# Altium schematic symbol library ICs_Logic.SchLib: 36 symbols
Pins are listed as number, name and electrical type; pins without a type are passive.

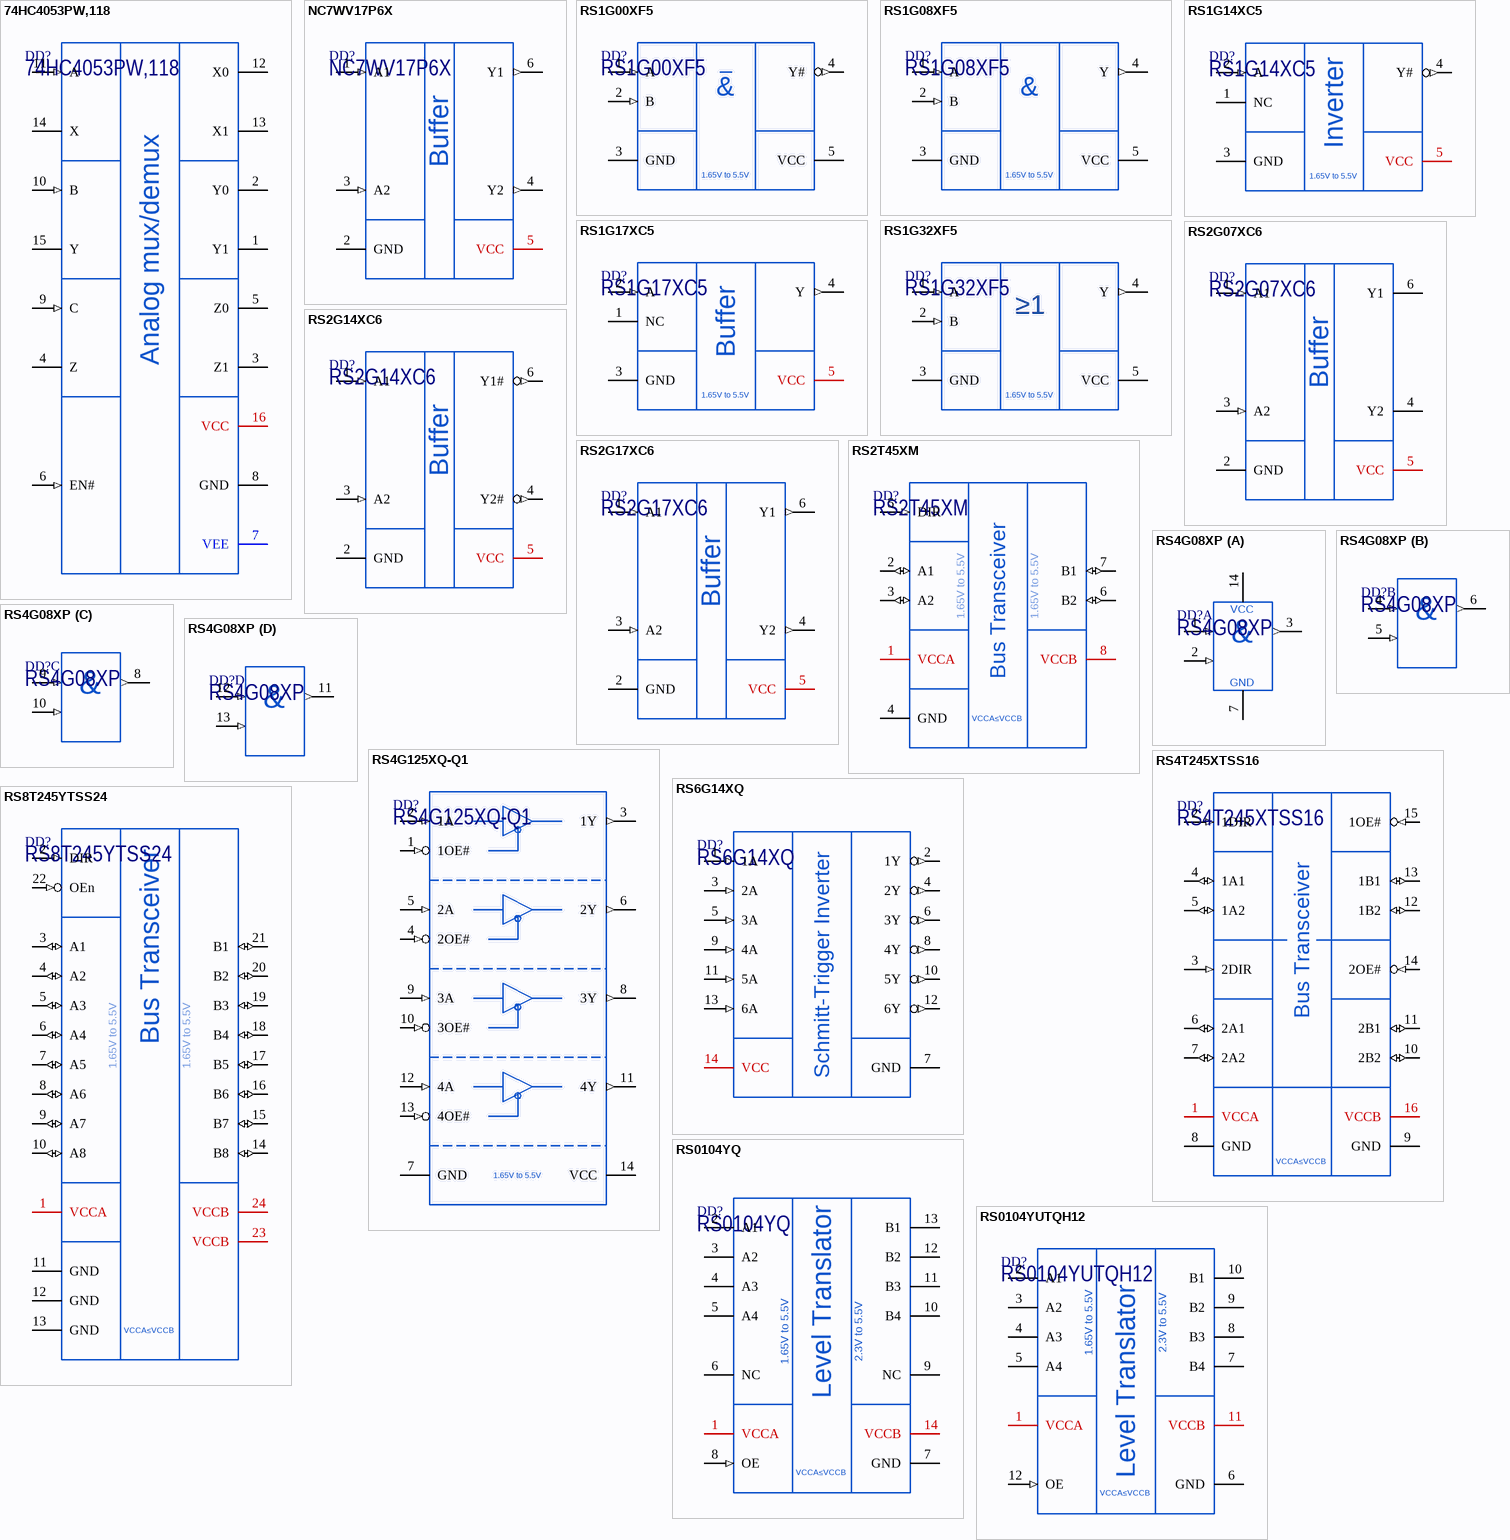
[diagram p0: symbols 74HC4053PW,118 to RS0104YUTQH12]

## 74HC4053PW,118
designator DD?
Triple 2-channel analog multiplexer/demultiplexer; Manufacturer: NXP; Marking: HC4053; ItemType: IC; ItemSubType: Logic; Package: TSSOP-16; PartNumber: 74HC4053PW,118; Mounting: SMD
footprint TSSOP16_JEDEC_MO153AB (TSSOP, 16-Leads, Body 5.0x4.40mm, Pitch 0.65mm)
pins: 1 Y1, 2 Y0, 3 Z1, 4 Z, 5 Z0, 6 EN# (in), 7 VEE, 8 GND, 9 C (in), 10 B (in), 11 A (in), 12 X0, 13 X1, 14 X, 15 Y, 16 VCC (power)
text: Analog mux/demux

## NC7WV17P6X
designator DD?
Dual Schmitt-Trigger Buffer; Manufacturer: ON Semiconductor; ItemType: IC; ItemSubType: Logic; Package: SC-88/SOT363; PartNumber: NC7WV17P6X; Mounting: SMD
footprint SOT363 (SOT363, 6-Leads, Body 1.25x2.00mm, Pitch 0.65mm)
pins: 1 A1 (in), 2 GND, 3 A2 (in), 4 Y2 (out), 5 VCC (power), 6 Y1 (out)
text: Buffer

## RS1G00XF5
designator DD?
Single 2–Input Positive-NAND Gate; Manufacturer: Runic; AltManufacturer1: Texas Instruments; Alternative1: SN74AHC1G00DBVR; Marking: 1G00; ItemType: IC; ItemSubType: Logic; PartNumber: RS1G00XF5; Package: SOT23-5; Mounting: SMD
footprint SOT235_JEDEC_MO178AA (SOT23, 5-Leads, Body 1.60x2.90mm, Pitch 0.95mm)
pins: 1 A (in), 2 B (in), 3 GND, 4 Y# (out), 5 VCC (power)
text: &; 1.65V to 5.5V

## RS1G08XF5
designator DD?
Single 2–Input Positive-AND Gate; Manufacturer: Runic; AltManufacturer1: Texas Instruments; Alternative1: SN74AHC1G08DBVR; Marking: 1G08; ItemType: IC; ItemSubType: Logic; PartNumber: RS1G08XF5; Package: SOT23-5; Mounting: SMD
footprint SOT235_JEDEC_MO178AA (SOT23, 5-Leads, Body 1.60x2.90mm, Pitch 0.95mm)
pins: 1 A (in), 2 B (in), 3 GND, 4 Y (out), 5 VCC (power)
text: &; 1.65V to 5.5V

## RS1G14XC5
designator DD?
Single Schmitt-Trigger Inverter; Manufacturer: Runic; AltManufacturer1: Texas Instruments; Alternative1: SN74LVC1G14DCK; Marking: 1G14; ItemType: IC; ItemSubType: Logic; PartNumber: RS1G14XC5; Package: SC70-5; Mounting: SMD
footprint SC705_JEDEC_MO203AA (SC70, 5-Leads, Body 1.25x2.00mm, Pitch 0.65mm)
pins: 1 NC (hiz), 2 A (in), 3 GND, 4 Y# (out), 5 VCC (power)
text: Inverter; 1.65V to 5.5V

## RS1G17XC5
designator DD?
Single Schmitt-Trigger Buffer; Manufacturer: Runic; AltManufacturer1: Texas Instruments; Alternative1: SN74LVC1G17DCK; Marking: 1G17; ItemType: IC; ItemSubType: Logic; PartNumber: RS1G17XC5; Package: SC70-5; Mounting: SMD
footprint SC705_JEDEC_MO203AA (SC70, 5-Leads, Body 1.25x2.00mm, Pitch 0.65mm)
pins: 1 NC (hiz), 2 A (in), 3 GND, 4 Y (out), 5 VCC (power)
text: Buffer; 1.65V to 5.5V

## RS1G32XF5
designator DD?
Single 2–Input Positive-OR Gate; Manufacturer: Runic; AltManufacturer1: ON Semiconductor; Alternative1: NC7SZ32M5X; Marking: 1G32; ItemType: IC; ItemSubType: Logic; PartNumber: RS1G32XF5; Package: SOT23-5; Mounting: SMD
footprint SOT235_JEDEC_MO178AA (SOT23, 5-Leads, Body 1.60x2.90mm, Pitch 0.95mm)
pins: 1 A (in), 2 B (in), 3 GND, 4 Y (out), 5 VCC (power)
text: ≥1; 1.65V to 5.5V

## RS2G07XC6
designator DD?
Dual Buffer and Driver with Open-Drain / Outputs; Manufacturer: Runic; AltManufacturer1: ON Semiconductor; Alternative1: NC7WZ07P6X; Marking: 2G07; ItemType: IC; ItemSubType: Logic; Package: SC70-6; PartNumber: RS2G07XC6; Mounting: SMD
footprint SC706_JEDEC_MO203AB (SC70, 6-Leads, Body 1.25x2.00mm, Pitch 0.65mm)
pins: 1 A1 (in), 2 GND, 3 A2 (in), 4 Y2 (oc), 5 VCC (power), 6 Y1 (oc)
text: Buffer

## RS2G14XC6
designator DD?
Dual Schmitt-Trigger Inverter; Manufacturer: Runic; AltManufacturer1: ON Semiconductor; Alternative1: NC7WZ14P6X; Marking: 2G14; ItemType: IC; ItemSubType: Logic; Package: SC70-6; PartNumber: RS2G14XC6; Mounting: SMD
footprint SC706_JEDEC_MO203AB (SC70, 6-Leads, Body 1.25x2.00mm, Pitch 0.65mm)
pins: 1 A1 (in), 2 GND, 3 A2 (in), 4 Y2# (out), 5 VCC (power), 6 Y1# (out)
text: Buffer

## RS2G17XC6
designator DD?
Dual Schmitt-Trigger Buffer; Manufacturer: Runic; AltManufacturer1: ON Semiconductor; Alternative1: NC7WZ17P6X; Marking: 2G17; ItemType: IC; ItemSubType: Logic; Package: SC70-6; PartNumber: RS2G17XC6; Mounting: SMD
footprint SC706_JEDEC_MO203AB (SC70, 6-Leads, Body 1.25x2.00mm, Pitch 0.65mm)
pins: 1 A1 (in), 2 GND, 3 A2 (in), 4 Y2 (out), 5 VCC (power), 6 Y1 (out)
text: Buffer

## RS2T45XM
designator DD?
2-Bit Dual-Supply Bus Transceiver with Configurable Voltage Translation and 3-State Output; Manufacturer: Runic; Marking: RS2T45; ItemType: IC; ItemSubType: Logic; PartNumber: RS2T45XM; Package: MSOP-8; Mounting: SMD
footprint MSOP8_JEDEC_MO187AA (MSOP, 8-Leads, Body 3.00x3.00mm, Pitch 0.65mm)
pins: 1 VCCA (power), 2 A1 (io), 3 A2 (io), 4 GND, 5 DIR (in), 6 B2 (io), 7 B1 (io), 8 VCCB (power)
text: 1.65V to 5.5V; Bus Transceiver; VCCA≤VCCB

## RS4G08XP
designator DD?
Quad 2-input AND gate; Manufacturer: Runic; AltManufacturer1: NXP; Alternative1: 74HC08D,653; Marking: RS4G08; ItemType: IC; ItemSubType: Logic; Package: SOIC-14(SOP14); PartNumber: RS4G08XP; Mounting: SMD
footprint SOIC14_JEDEC_MS012AB (SOIC, 14-Leads, Body 3.90x8.65mm, Pitch 1.27mm)
part A pins: 1 1A (in), 2 1B (in), 3 1Y (out), 7 GND, 14 VCC (power)
part B pins: 4 2A (in), 5 2B (in), 6 2Y (out)
part C pins: 8 3Y (out), 9 3A (in), 10 3B (in)
part D pins: 11 4Y (out), 12 4A (in), 13 4B (in)
part A text: &
part B text: &
part C text: &
part D text: &

## RS4G125XQ-Q1
designator DD?
Quadruple Bus Buffer Gate With 3-State Outputs; Manufacturer: Runic; AltManufacturer1: ON Semiconductor; Alternative1: 74LCX125MTC; ItemType: IC; ItemSubType: Logic; PartNumber: RS4G125XQ-Q1; Package: TSSOP-14; Mounting: SMD
footprint TSSOP14_JEDEC_MO153AB-1 (TSSOP, 14-Leads, Body 5.0x4.40mm, Pitch 0.65mm)
pins: 1 1OE# (in), 2 1A (in), 3 1Y (out), 4 2OE# (in), 5 2A (in), 6 2Y (out), 7 GND, 8 3Y (out), 9 3A (in), 10 3OE# (in), 11 4Y (out), 12 4A (in), 13 4OE# (in), 14 VCC (power)
text: 1.65V to 5.5V

## RS4T245XTSS16
designator DD?
4-Bit Dual-Supply Bus Transceiver with Configurable Voltage Translation and 3-State Output; Manufacturer: Runic; ItemType: IC; ItemSubType: Logic; PartNumber: RS4T245XTSS16; Package: TSSOP-16; Marking: RS4T245; Mounting: SMD
footprint TSSOP16_JEDEC_MO153AB (TSSOP, 16-Leads, Body 5.0x4.40mm, Pitch 0.65mm)
pins: 1 VCCA (power), 2 1DIR (in), 3 2DIR (in), 4 1A1 (io), 5 1A2 (io), 6 2A1 (io), 7 2A2 (io), 8 GND, 9 GND, 10 2B2 (io), 11 2B1 (io), 12 1B2 (io), 13 1B1 (io), 14 2OE# (in), 15 1OE# (in), 16 VCCB (power)
text: Bus Transceiver; VCCA≤VCCB

## RS6G14XQ
designator DD?
6-channel Schmitt-Trigger Inverter; Manufacturer: Runic; AltManufacturer1: Texas Instruments; Alternative1: SN74HC14PWR; Marking: RS6G14; ItemType: IC; ItemSubType: Logic; PartNumber: RS6G14XQ; Package: TSSOP-14; Mounting: SMD
footprint TSSOP14_JEDEC_MO153AB-1 (TSSOP, 14-Leads, Body 5.0x4.40mm, Pitch 0.65mm)
pins: 1 1A (in), 2 1Y (out), 3 2A (in), 4 2Y (out), 5 3A (in), 6 3Y (out), 7 GND, 8 4Y (out), 9 4A (in), 10 5Y (out), 11 5A (in), 12 6Y (out), 13 6A (in), 14 VCC (power)
text: Schmitt-Trigger Inverter

## RS8T245YTSS24
designator DD?
8-Bit Dual-Supply Bus Transceiver with Configurable Voltage Translation and 3-State Output; Manufacturer: Runic; AltManufacturer1: Texas Instruments; Alternative1: SN74LVC8T245PWR; ItemType: IC; ItemSubType: Logic; PartNumber: RS8T245YTSS24; Package: TSSOP-24; Marking: RS8T245; Mounting: SMD
footprint TSSOP24_JEDEC_MO153AD (TSSOP, 24-Leads, Body 7.8.0x4.40mm, Pitch 0.65mm)
pins: 1 VCCA (power), 2 DIR (in), 3 A1 (io), 4 A2 (io), 5 A3 (io), 6 A4 (io), 7 A5 (io), 8 A6 (io), 9 A7 (io), 10 A8 (io), 11 GND, 12 GND, 13 GND, 14 B8 (io), 15 B7 (io), 16 B6 (io), 17 B5 (io), 18 B4 (io), 19 B3 (io), 20 B2 (io), 21 B1 (io), 22 OEn (in), 23 VCCB (power), 24 VCCB (power)
text: Bus Transceiver; 1.65V to 5.5V; VCCA≤VCCB

## RS0104YQ
designator DD?
4-Bit Bidirectional Voltage-Level Translator for OpenDrain and Push-Pull Applications; Manufacturer: Runic; AltManufacturer1: Texas Instruments; Alternative1: TXS0104EPW; Marking: RS0104; ItemType: IC; ItemSubType: Logic; PartNumber: RS0104YQ; Package: TSSOP-14; Mounting: SMD
footprint TSSOP14_JEDEC_MO153AB-1 (TSSOP, 14-Leads, Body 5.0x4.40mm, Pitch 0.65mm)
pins: 1 VCCA (power), 2 A1 (oc), 3 A2 (oc), 4 A3 (oc), 5 A4 (oc), 6 NC (hiz), 7 GND, 8 OE (in), 9 NC (hiz), 10 B4 (oc), 11 B3 (oc), 12 B2 (oc), 13 B1 (oc), 14 VCCB (power)
text: Level Translator; 1.65V to 5.5V; 2.3V to 5.5V; VCCA≤VCCB

## RS0104YUTQH12
designator DD?
4-Bit Bidirectional Voltage-Level Translator for OpenDrain and Push-Pull Applications; Manufacturer: Runic; Marking: 0104; ItemType: IC; ItemSubType: Logic; PartNumber: RS0104YUTQH12; Package: QFN2x1.7-12L; Mounting: SMD
footprint QFN2x1.7-12L (QFN, 12 leads, 1.7mm x 2mm, 0.4mm pitch)
pins: 1 VCCA (power), 2 A1 (oc), 3 A2 (oc), 4 A3 (oc), 5 A4 (oc), 6 GND, 7 B4 (oc), 8 B3 (oc), 9 B2 (oc), 10 B1 (oc), 11 VCCB (power), 12 OE (in)
text: 1.65V to 5.5V; 2.3V to 5.5V; Level Translator; VCCA≤VCCB

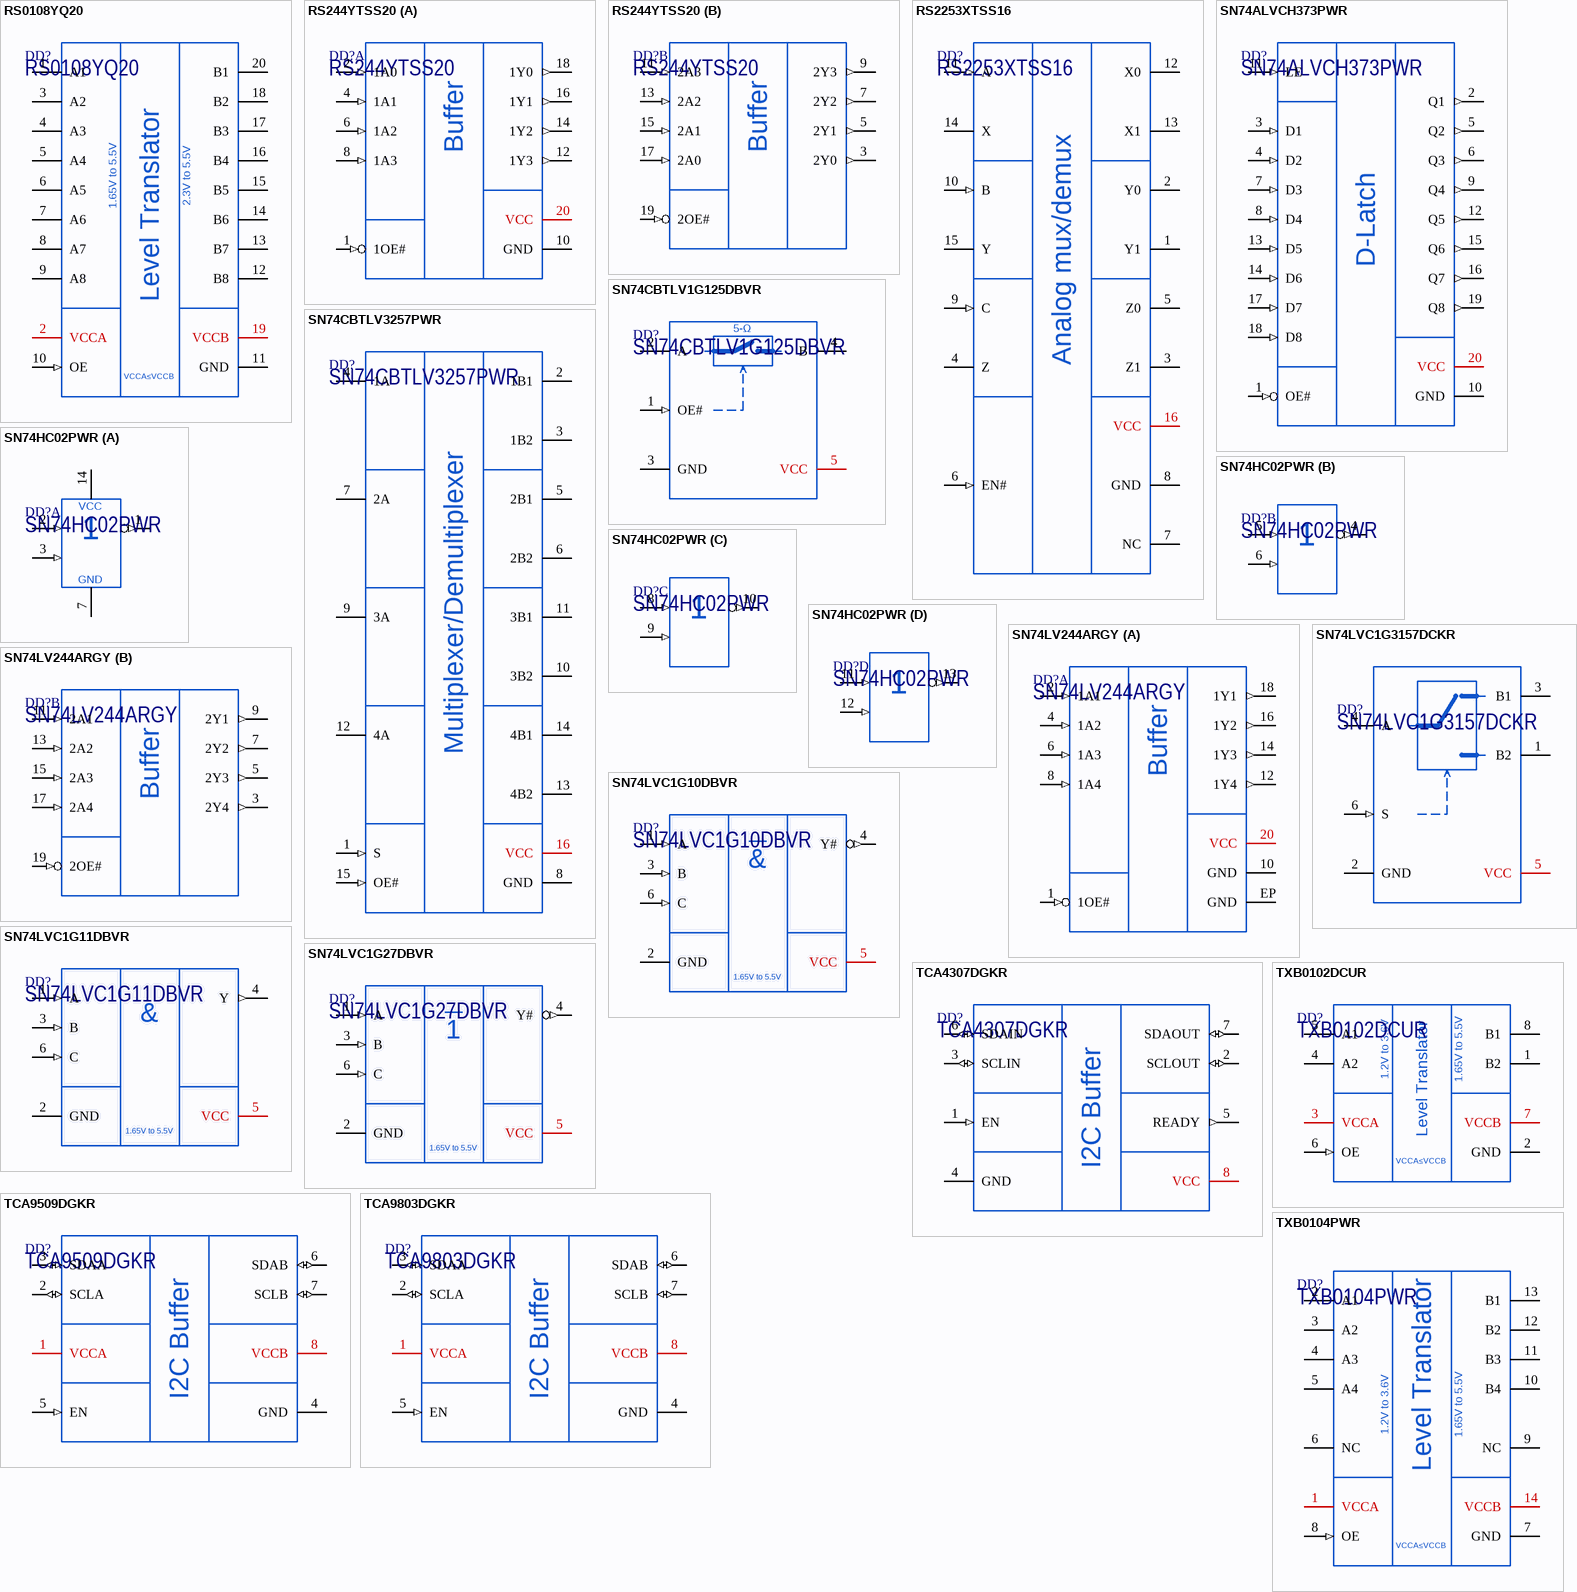
[diagram p1: symbols RS0108YQ20 to TXB0104PWR]

## RS0108YQ20
designator DD?
8-Bit Bidirectional Voltage-Level Translator for OpenDrain and Push-Pull Applications; Manufacturer: Runic; AltManufacturer1: Texas Instruments; Alternative1: TXS0108EPW; Marking: RS0108; ItemType: IC; ItemSubType: Logic; PartNumber: RS0108YQ20; Package: TSSOP-20; Mounting: SMD
footprint TSSOP20_JEDEC_MO153AC (TSSOP, 20-Leads, Body 6.50x4.40mm, Pitch 0.65mm)
pins: 1 A1 (oc), 2 VCCA (power), 3 A2 (oc), 4 A3 (oc), 5 A4 (oc), 6 A5 (oc), 7 A6 (oc), 8 A7 (oc), 9 A8 (oc), 10 OE (in), 11 GND, 12 B8 (oc), 13 B7 (oc), 14 B6 (oc), 15 B5 (oc), 16 B4 (oc), 17 B3 (oc), 18 B2 (oc), 19 VCCB (power), 20 B1 (oc)
text: 1.65V to 5.5V; 2.3V to 5.5V; Level Translator; VCCA≤VCCB

## RS244YTSS20
designator DD?
Octal Buffer/Driver With 3-State Outputs; Manufacturer: Runic; AltManufacturer1: Texas Instruments; Alternative1: SN74LVC244APW; Marking: RS244; ItemType: IC; ItemSubType: Logic; PartNumber: RS244YTSS20; Package: TSSOP-20; Mounting: SMD
footprint TSSOP20_JEDEC_MO153AC (TSSOP, 20-Leads, Body 6.50x4.40mm, Pitch 0.65mm)
part A pins: 1 1OE# (in), 2 1A0 (in), 4 1A1 (in), 6 1A2 (in), 8 1A3 (in), 10 GND, 12 1Y3 (out), 14 1Y2 (out), 16 1Y1 (out), 18 1Y0 (out), 20 VCC (power)
part B pins: 3 2Y0 (out), 5 2Y1 (out), 7 2Y2 (out), 9 2Y3 (out), 11 2A3 (in), 13 2A2 (in), 15 2A1 (in), 17 2A0 (in), 19 2OE# (in)
part A text: Buffer
part B text: Buffer

## RS2253XTSS16
designator DD?
CMOS Triple 2-Channel Analog Multiplexer/Demultiplexer; Manufacturer: Jiangsu Runic Technology; AltManufacturer1: NXP; Alternative1: 74HC4053PW,118; Marking: RS2253; ItemType: IC; ItemSubType: Logic; Package: TSSOP-16; PartNumber: RS2253XTSS16; Mounting: SMD
footprint TSSOP16_JEDEC_MO153AB (TSSOP, 16-Leads, Body 5.0x4.40mm, Pitch 0.65mm)
pins: 1 Y1, 2 Y0, 3 Z1, 4 Z, 5 Z0, 6 EN# (in), 7 NC (hiz), 8 GND, 9 C (in), 10 B (in), 11 A (in), 12 X0, 13 X1, 14 X, 15 Y, 16 VCC (power)
text: Analog mux/demux

## SN74ALVCH373PWR
designator DD?
Octal Transparent D-Type Latch With 3-State Outputs; Manufacturer: Texas Instruments; Marking: VB373; ItemType: IC; ItemSubType: Logic; PartNumber: SN74ALVCH373PWR; Package: TSSOP-20; Mounting: SMD
footprint TSSOP20_JEDEC_MO153AC (TSSOP, 20-Leads, Body 6.50x4.40mm, Pitch 0.65mm)
pins: 1 OE# (in), 2 Q1 (out), 3 D1 (in), 4 D2 (in), 5 Q2 (out), 6 Q3 (out), 7 D3 (in), 8 D4 (in), 9 Q4 (out), 10 GND, 11 LE (in), 12 Q5 (out), 13 D5 (in), 14 D6 (in), 15 Q6 (out), 16 Q7 (out), 17 D7 (in), 18 D8 (in), 19 Q8 (out), 20 VCC (power)
text: D-Latch

## SN74CBTLV1G125DBVR
designator DD?
Low-Voltage single FET bus switch; Manufacturer: Texas Instruments; Marking: V25x; ItemType: IC; ItemSubType: Mux; Package: SOT23-5; PartNumber: SN74CBTLV1G125DBVR; Mounting: SMD
footprint SOT235_JEDEC_MO178AA (SOT23, 5-Leads, Body 1.60x2.90mm, Pitch 0.95mm)
pins: 1 OE# (in), 2 A, 3 GND, 4 B, 5 VCC (power)
text: 5-Ω

## SN74CBTLV3257PWR
designator DD?
Low-Voltage 4-Bit 1-of-2 FET Multiplexer/Demultiplexer; Manufacturer: Texas Instruments; AltManufacturer1: NXP; Alternative1: 74CBTLV3257PW.118; Marking: CL257; ItemType: IC; ItemSubType: Mux; Package: TSSOP-16; PartNumber: SN74CBTLV3257PWR; Mounting: SMD
footprint TSSOP16_JEDEC_MO153AB (TSSOP, 16-Leads, Body 5.0x4.40mm, Pitch 0.65mm)
pins: 1 S (in), 2 1B1, 3 1B2, 4 1A, 5 2B1, 6 2B2, 7 2A, 8 GND, 9 3A, 10 3B2, 11 3B1, 12 4A, 13 4B2, 14 4B1, 15 OE# (in), 16 VCC (power)
text: Multiplexer/Demultiplexer

## SN74HC02PWR
designator DD?
Quadruple 2-InputPositive-NORGates; Manufacturer: Texas Instruments; AltManufacturer1: Runic; Alternative1: RS4G02XQ; Marking: HC02; ItemType: IC; ItemSubType: Logic; PartNumber: SN74HC02PWR; Package: TSSOP-14; Mounting: SMD
footprint TSSOP14_JEDEC_MO153AB-1 (TSSOP, 14-Leads, Body 5.0x4.40mm, Pitch 0.65mm)
part A pins: 1 1Y (out), 2 1A (in), 3 1B (in), 7 GND, 14 VCC (power)
part B pins: 4 2Y (out), 5 2A (in), 6 2B (in)
part C pins: 8 3A (in), 9 3B (in), 10 3Y (out)
part D pins: 11 4A (in), 12 4B (in), 13 4Y (out)

## SN74LV244ARGY
designator DD?
Octal Buffer/Driver With 3-State Outputs; Manufacturer: Texas Instruments; Marking: LV244A; ItemType: IC; ItemSubType: Logic; PartNumber: SN74LV244ARGY; Package: VQFN-20; Mounting: SMD
footprint VQFN20_RGY0020A (Power VQFN 3.5mm x 4.5mm, TI case RGY0020A)
part A pins: 1 1OE# (in), 2 1A1 (in), 4 1A2 (in), 6 1A3 (in), 8 1A4 (in), 10 GND, 12 1Y4 (out), 14 1Y3 (out), 16 1Y2 (out), 18 1Y1 (out), 20 VCC (power), EP GND
part B pins: 3 2Y4 (out), 5 2Y3 (out), 7 2Y2 (out), 9 2Y1 (out), 11 2A1 (in), 13 2A2 (in), 15 2A3 (in), 17 2A4 (in), 19 2OE# (in)
part A text: Buffer
part B text: Buffer

## SN74LVC1G10DBVR
designator DD?
Single 3-Input Positive-NAND Gate; Manufacturer: Texas Instruments; Marking: C10x; ItemType: IC; ItemSubType: Logic; PartNumber: SN74LVC1G10DBVR; Package: SOT23-6; Mounting: SMD
footprint SOT236_JEDEC_MO178AB (SOT23, 6-Leads, Body 1.60x2.90mm, Pitch 0.95mm)
pins: 1 A (in), 2 GND, 3 B (in), 4 Y# (out), 5 VCC (power), 6 C (in)
text: &; 1.65V to 5.5V

## SN74LVC1G11DBVR
designator DD?
Single 3-Input Positive-AND Gate; Manufacturer: Texas Instruments; Marking: C11x; ItemType: IC; ItemSubType: Logic; PartNumber: SN74LVC1G11DBVR; Package: SOT23-6; Mounting: SMD
footprint SOT236_JEDEC_MO178AB (SOT23, 6-Leads, Body 1.60x2.90mm, Pitch 0.95mm)
pins: 1 A (in), 2 GND, 3 B (in), 4 Y (out), 5 VCC (power), 6 C (in)
text: &; 1.65V to 5.5V

## SN74LVC1G27DBVR
designator DD?
Single 3-Input Positive-NOR Gate; Manufacturer: Texas Instruments; Marking: C27x; ItemType: IC; ItemSubType: Logic; PartNumber: SN74LVC1G27DBVR; Package: SOT23-6; Mounting: SMD
footprint SOT236_JEDEC_MO178AB (SOT23, 6-Leads, Body 1.60x2.90mm, Pitch 0.95mm)
pins: 1 A (in), 2 GND, 3 B (in), 4 Y# (out), 5 VCC (power), 6 C (in)
text: 1.65V to 5.5V

## SN74LVC1G3157DCKR
designator DD?
Single-Pole Double-Throw Analog Switch; Manufacturer: Texas Instruments; Marking: C5x; ItemType: IC; ItemSubType: Mux; Package: SOT23-5; PartNumber: SN74LVC1G3157DCKR; Mounting: SMD
footprint SC706_JEDEC_MO203AB (SC70, 6-Leads, Body 1.25x2.00mm, Pitch 0.65mm)
pins: 1 B2, 2 GND, 3 B1, 4 A, 5 VCC (power), 6 S (in)

## TCA4307DGKR
designator DD?
Hot Swappable I2C Bus and SMBus Buffer with Stuck Bus Recovery; Manufacturer: Texas Instruments; AltManufacturer1: Analog Devices; Alternative1: LTC4307CMS8; Marking: 4307; ItemType: IC; PartNumber: TCA4307DGKR; Package: VSSOP-8; ItemSubType: Buffer; Mounting: SMD
footprint VSSOP8_DGK0008A (MSOP, 8-Leads, Body 3.00x3.00mm, Pitch 0.65mm, TI case DGK0008A)
pins: 1 EN (in), 2 SCLOUT (io), 3 SCLIN (io), 4 GND, 5 READY (out), 6 SDAIN (io), 7 SDAOUT (io), 8 VCC (power)
text: I2C Buffer

## TCA9509DGKR
designator DD?
Level-Translating I2C Bus Buffer/Repeater; Manufacturer: Texas Instruments; Marking: 7KQ; ItemType: IC; ItemSubType: Buffer; PartNumber: TCA9509DGKR; Package: VSSOP-8; Mounting: SMD
footprint VSSOP8_DGK0008A (MSOP, 8-Leads, Body 3.00x3.00mm, Pitch 0.65mm, TI case DGK0008A)
pins: 1 VCCA (power), 2 SCLA (io), 3 SDAA (io), 4 GND, 5 EN (in), 6 SDAB (io), 7 SCLB (io), 8 VCCB (power)
text: I2C Buffer

## TCA9803DGKR
designator DD?
Level-Translating I2C Bus Buffer/Repeater; Manufacturer: Texas Instruments; Alternative1: TCA9803DGKT; Marking: 15С; ItemType: IC; ItemSubType: Buffer; PartNumber: TCA9803DGKR; Package: VSSOP-8; AltManufacturer1: Texas Instruments; Mounting: SMD
footprint VSSOP8_DGK0008A (MSOP, 8-Leads, Body 3.00x3.00mm, Pitch 0.65mm, TI case DGK0008A)
pins: 1 VCCA (power), 2 SCLA (io), 3 SDAA (io), 4 GND, 5 EN (in), 6 SDAB (io), 7 SCLB (io), 8 VCCB (power)
text: I2C Buffer

## TXB0102DCUR
designator DD?
2-Bit Bidirectional Voltage-Level Translator With Auto Direction Sensing; Manufacturer: Texas Instruments; Marking: NFDR; ItemType: IC; ItemSubType: Logic; PartNumber: TXB0102DCUR; Package: VSSOP-8; Mounting: SMD
footprint VSSOP8_TXB0102 (VSSOP, 8-Leads, Body 2.00x2.30mm, Pitch 0.5mm, TI Ref S-PDSO-G8)
pins: 1 B2 (oc), 2 GND, 3 VCCA (power), 4 A2 (oc), 5 A1 (oc), 6 OE (in), 7 VCCB (power), 8 B1 (oc)
text: 1.2V to 3.6V; 1.65V to 5.5V; Level Translator; VCCA≤VCCB

## TXB0104PWR
designator DD?
4-Bit Bidirectional Voltage-Level Translator with Auto-Direction Sensing; Manufacturer: Texas Instruments; Marking: YE04; ItemType: IC; ItemSubType: Logic; PartNumber: TXB0104PWR; Package: TSSOP-14; Mounting: SMD
footprint TSSOP14_JEDEC_MO153AB-1 (TSSOP, 14-Leads, Body 5.0x4.40mm, Pitch 0.65mm)
pins: 1 VCCA (power), 2 A1 (oc), 3 A2 (oc), 4 A3 (oc), 5 A4 (oc), 6 NC (hiz), 7 GND, 8 OE (in), 9 NC (hiz), 10 B4 (oc), 11 B3 (oc), 12 B2 (oc), 13 B1 (oc), 14 VCCB (power)
text: Level Translator; 1.2V to 3.6V; 1.65V to 5.5V; VCCA≤VCCB

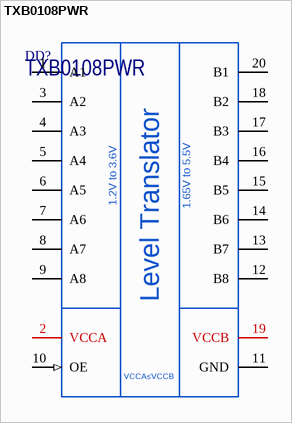
[diagram p2: symbol TXB0108PWR]

## TXB0108PWR
designator DD?
8-Bit Bidirectional Voltage-Level Translator with Auto-Direction Sensing; Manufacturer: Texas Instruments; Marking: YE08; ItemType: IC; ItemSubType: Logic; PartNumber: TXB0108PWR; Package: TSSOP-20; Mounting: SMD
footprint TSSOP20_JEDEC_MO153AC (TSSOP, 20-Leads, Body 6.50x4.40mm, Pitch 0.65mm)
pins: 1 A1 (oc), 2 VCCA (power), 3 A2 (oc), 4 A3 (oc), 5 A4 (oc), 6 A5 (oc), 7 A6 (oc), 8 A7 (oc), 9 A8 (oc), 10 OE (in), 11 GND, 12 B8 (oc), 13 B7 (oc), 14 B6 (oc), 15 B5 (oc), 16 B4 (oc), 17 B3 (oc), 18 B2 (oc), 19 VCCB (power), 20 B1 (oc)
text: 1.2V to 3.6V; 1.65V to 5.5V; Level Translator; VCCA≤VCCB